# Altium schematic symbol library CD4071BE.SchLib: 2 symbols
Pins are listed as number, name and electrical type; pins without a type are passive.

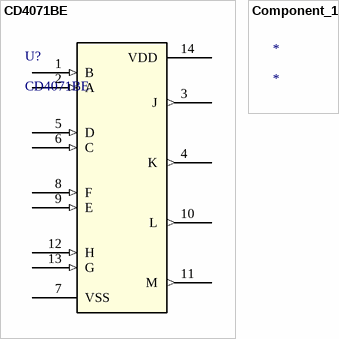
[diagram p0: symbols CD4071BE to Component_1]

## CD4071BE
designator U?
No Description Available; Mfr_Name: Texas Instruments; Copyright: Copyright (C) 2023 Ultra Librarian. All rights reserved.; Manufacturer_Part_Number: CD4071BE; RefDes: RefDes; Type: DEV
footprint N14
pins: 1 B (in), 2 A (in), 3 J (out), 4 K (out), 5 D (in), 6 C (in), 7 VSS (power), 8 F (in), 9 E (in), 10 L (out), 11 M (out), 12 H (in), 13 G (in), 14 VDD (power)

## Component_1
designator *